# EAGLE library part VREG_LT1763 (library Taylor)
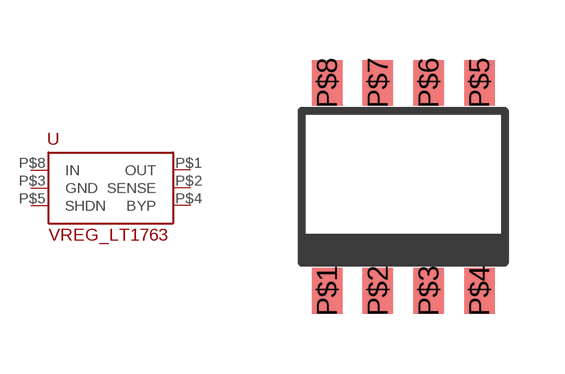
[diagram p1: symbol with the pads of SO-8; footprint SO-8]

Designator prefix -

## VREG_LT1763  [SO-8]
P$1  OUT
P$2  SENSE
P$3  GND
P$4  BYP
P$5  SHDN
P$8  IN

## Footprint SO-8 (pad centres in mm)
smd 0.762 x 1.143: P$1 -1.905,-2.603; P$2 -0.635,-2.603; P$3 0.635,-2.603; P$4 1.905,-2.603; P$5 1.905,2.603; P$6 0.635,2.603; P$7 -0.635,2.603; P$8 -1.905,2.603